# Altium footprint library Vacuum_Tube.PcbLib: 6 footprints
Each footprint in its own frame and in the unit in brackets; x right, y up, seen from the top. Pads: shape width x height; smd on the part's side, far side on the other; paste and mask are expansions set on the pad; w line width, h text height; cw(c..) or ccw(c..) is an arc to the next point about the centre after c.
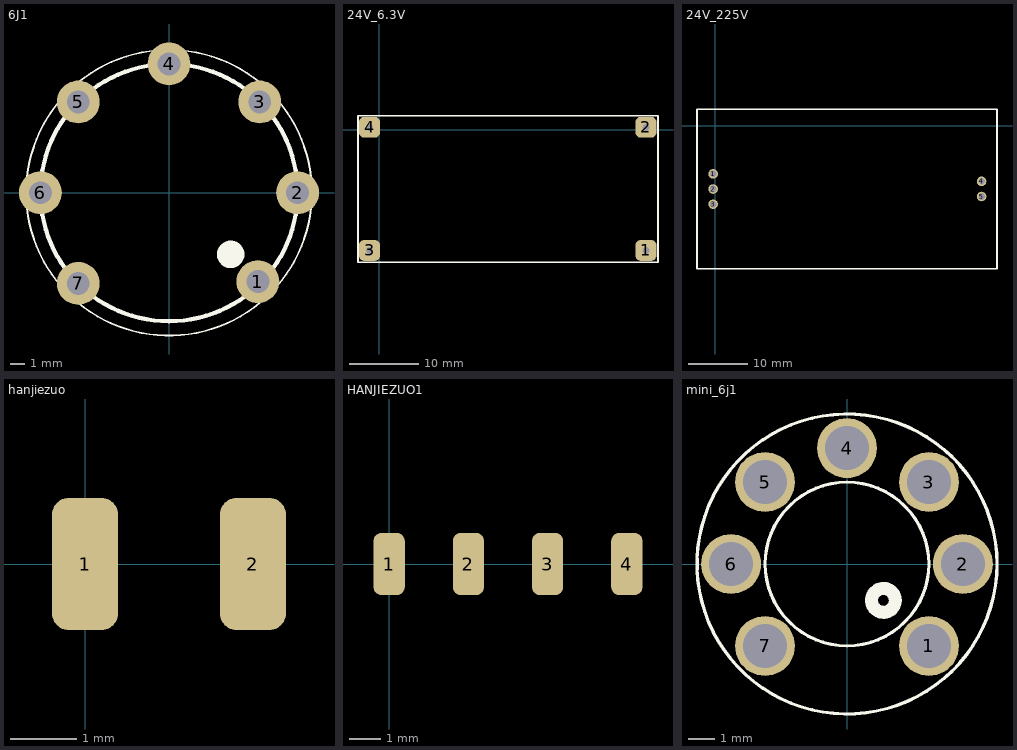
[diagram p0: the footprints below, top view; thin cyan lines are the x and y axes]

## 6J1 [mm] "J7"
pads (7):
  round 3 hole 1.6 paste+0: 1(6.223,-6.223)
  round 3 hole 1.6: 2(9,0) 3(6.35,6.35) 4(0,9.017) 5(-6.35,6.35) 6(-9,0) 7(-6.35,-6.35)
Top Overlay:
  circle w0.127: c0,0 r10
  circle w0.3: c0,0 r9
  circle w1: c4.318,-4.318 r0.458

## 24V_6.3V [mm]
pads (4):
  rrect50% 3x3 hole 1: 1(38.227,-17.272) 2(38.227,0.381) 3(-1.397,-17.272) 4(-1.397,0.381)
Top Overlay:
  lines w0.254: -3.048,-18.968 -3.048,2.032 39.952,2.032 39.952,-18.968 -3.048,-18.968

## 24V_225V [mm]
pads (5):
  round 1.6 hole 1.1: 1(-0.34,-8.02) 2(-0.34,-10.56) 3(-0.34,-13.103) 4(44.577,-9.271) 5(44.577,-11.811)
Top Overlay:
  lines w0.254: -3.048,-23.906 47.152,-23.906 47.152,2.794 -3.048,2.794 -3.048,-23.906

## hanjiezuo [mm]
pads (2):
  rrect50% 1x2 smd: 1(0,0) 2(2.54,0)

## HANJIEZUO1 [mm]
pads (4):
  rrect50% 1x2 smd: 1(0,0) 2(2.54,0) 3(5.08,0) 4(7.62,0)

## mini_6j1 [mm]
pads (7):
  round 2.3 hole 1.7 paste+0: 1(3.147,-3.147)
  round 2.3 hole 1.7: 2(4.45,0) 3(3.147,3.147) 4(0,4.45) 5(-3.147,3.147) 6(-4.45,0) 7(-3.147,-3.147)
Top Overlay:
  circle w0.5: c1.397,-1.397 r0.458
  circle w0.127: c0,0 r5.759
  circle w0.127: c0,0 r3.144